# EAGLE library part SI1141 (library Silicon Labs)
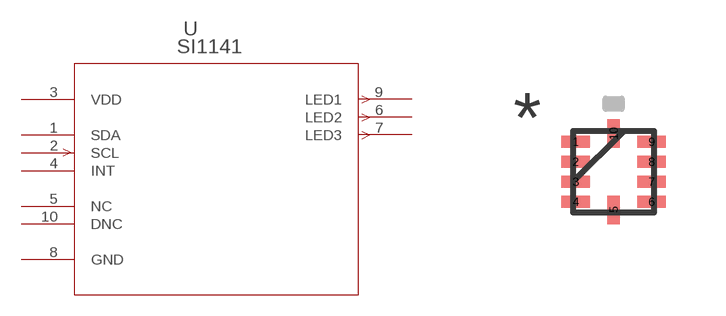
[diagram p4: symbol with the pads of QFN10; footprint QFN10]

Designator prefix -

## SI1141  [QFN10]
1  SDA  pas
2  SCL  in
3  VDD  pwr
4  INT  pas
5  NC  nc
6  LED2  out
7  LED3  out
8  GND  pwr
9  LED1  out
10  DNC  nc

## Footprint QFN10 (pad centres in mm)
smd 0.711 x 0.305: 1 -0.953,0.75; 2 -0.953,0.25; 3 -0.953,-0.25; 4 -0.953,-0.75; 6 0.953,-0.75; 7 0.953,-0.25; 8 0.953,0.25; 9 0.953,0.75
smd 0.305 x 0.711: 5 0,-0.953; 10 0,0.953